# Altium integrated library Actel Fusion.IntLib: 336 symbols (part 8 of 73)
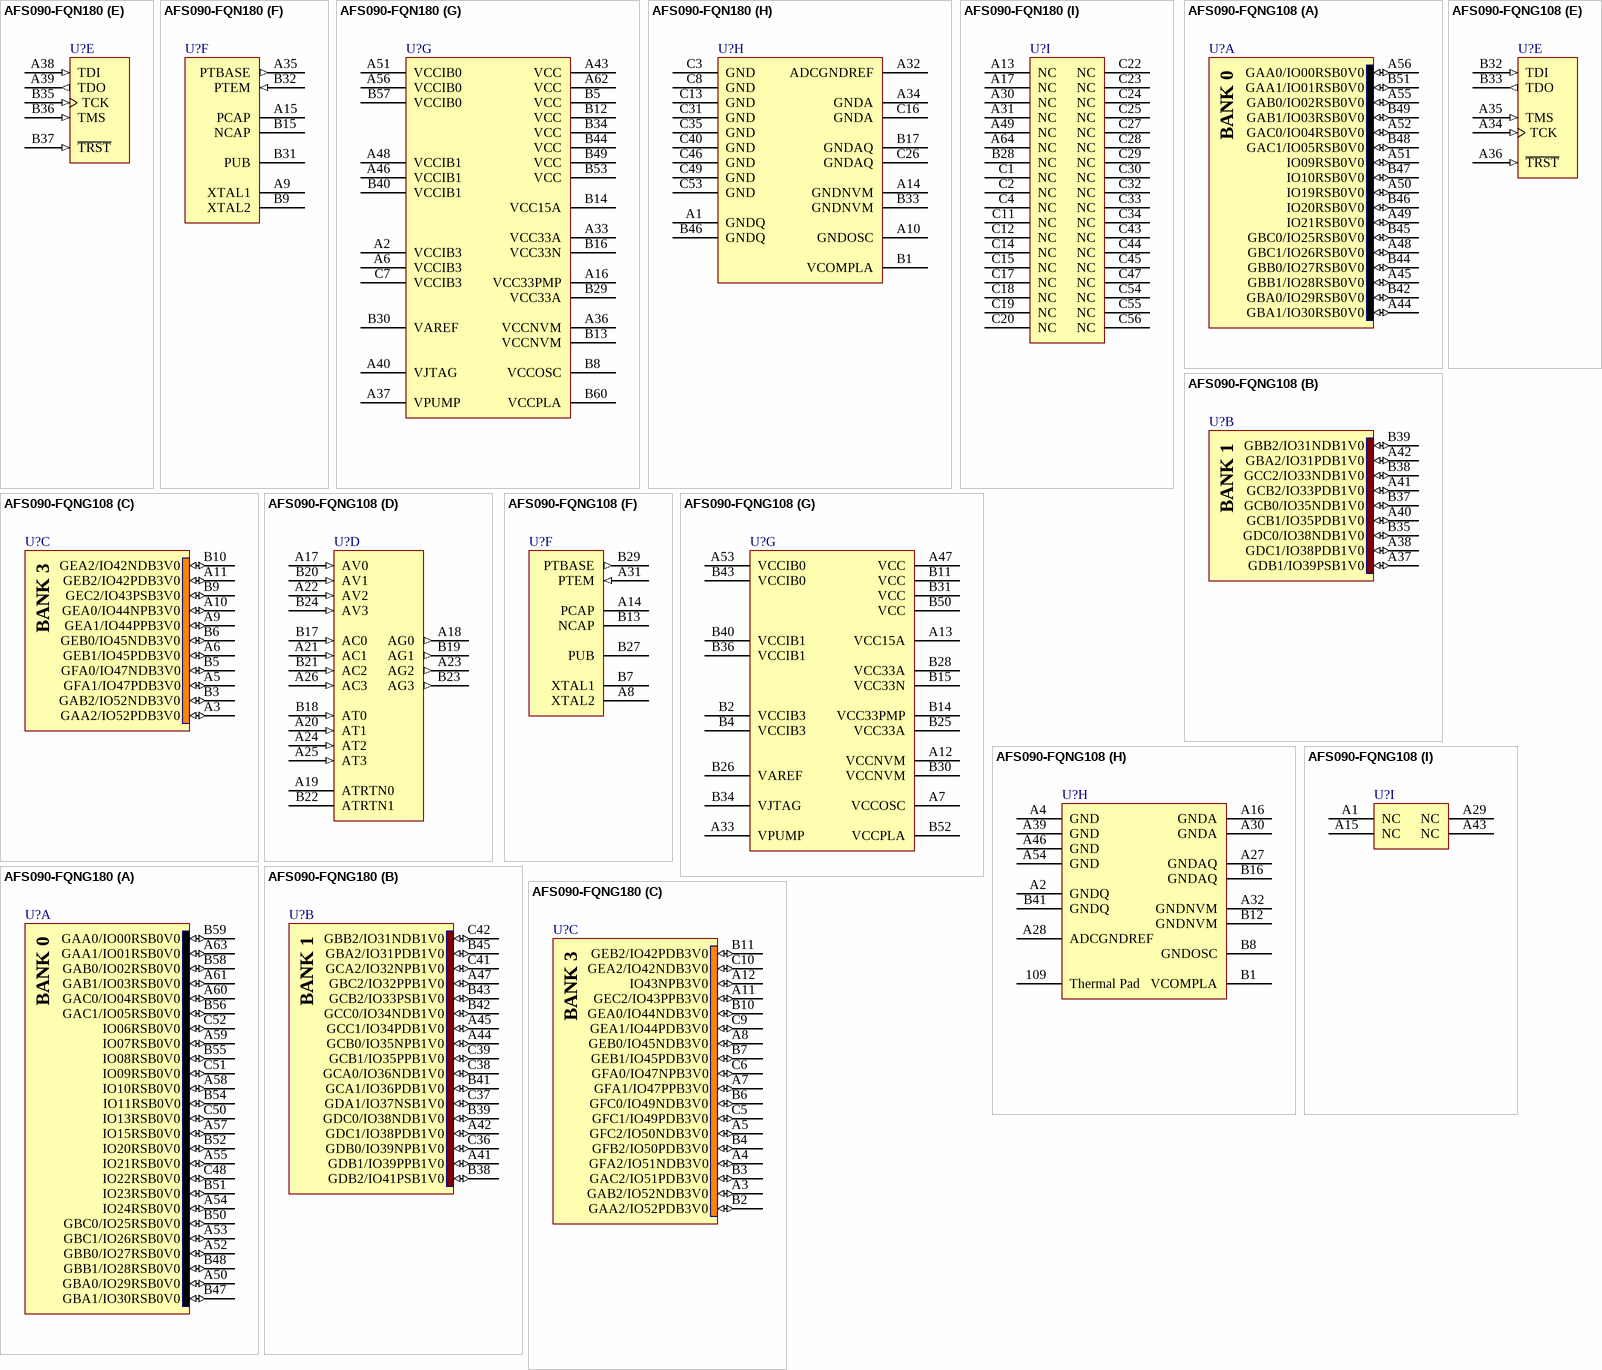
[diagram p396: symbols AFS090-FQN180 to AFS090-FQNG180]

## AFS090-FQNG108
designator U?
3.3V Fusion Mixed Signal Flash FPGA, 90,000 System Gates, 108-Pin Quad Flat No Lead, F Speed Grade, Commercial Grade, Pb-Free; ComponentAvailability: F speed grade removed in ver2.0, Jul-2009 datasheet.; Published: 30-Jun-2006; LatestRevisionDate: 30-Apr-2009; LatestRevisionNote: Added Thermal Pad to Sch.; DatasheetVersion: v1.7, Oct-2008; PackageVersion: ver11.2, Nov-2009; PackageReference: QN108; Publisher: Altium Limited; PackageDescription: 108-Pin Quad Flat Pack No-Leads (QN108); ComponentLink1Description: Fusion Datasheet; ComponentLink1URL: http://www.actel.com/documents/Fusion_DS.pdf; ComponentLink2Description: Package Mechanical Drawings; ComponentLink2URL: http://www.actel.com/documents/PckgMechDrwngs.pdf; ComponentLink3Description: Fusion Documents; ComponentLink3URL: http://www.actel.com/products/fusion/docs.aspx; ComponentLink4Description: Actel.com Home; ComponentLink4URL: http://www.actel.com/
footprint QN108 (QFN, 108-Leads, Body 8x8mm, Pitch 0.5mm)
3D model AFS090-QN108 (108-Pin Quad Flat Pack No-Leads (QN108))
signal-integrity model AFS090_QN108 (Fusion)
part A pins: A44 GBA1/IO30RSB0V0 (io), A45 GBB1/IO28RSB0V0 (io), A48 GBC1/IO26RSB0V0 (io), A49 IO21RSB0V0 (io), A50 IO19RSB0V0 (io), A51 IO09RSB0V0 (io), A52 GAC0/IO04RSB0V0 (io), A55 GAB0/IO02RSB0V0 (io), A56 GAA0/IO00RSB0V0 (io), B42 GBA0/IO29RSB0V0 (io), B44 GBB0/IO27RSB0V0 (io), B45 GBC0/IO25RSB0V0 (io), B46 IO20RSB0V0 (io), B47 IO10RSB0V0 (io), B48 GAC1/IO05RSB0V0 (io), B49 GAB1/IO03RSB0V0 (io), B51 GAA1/IO01RSB0V0 (io)
part B pins: A37 GDB1/IO39PSB1V0 (io), A38 GDC1/IO38PDB1V0 (io), A40 GCB1/IO35PDB1V0 (io), A41 GCB2/IO33PDB1V0 (io), A42 GBA2/IO31PDB1V0 (io), B35 GDC0/IO38NDB1V0 (io), B37 GCB0/IO35NDB1V0 (io), B38 GCC2/IO33NDB1V0 (io), B39 GBB2/IO31NDB1V0 (io)
part C pins: A3 GAA2/IO52PDB3V0 (io), A5 GFA1/IO47PDB3V0 (io), A6 GEB1/IO45PDB3V0 (io), A9 GEA1/IO44PPB3V0 (io), A10 GEA0/IO44NPB3V0 (io), A11 GEB2/IO42PDB3V0 (io), B3 GAB2/IO52NDB3V0 (io), B5 GFA0/IO47NDB3V0 (io), B6 GEB0/IO45NDB3V0 (io), B9 GEC2/IO43PSB3V0 (io), B10 GEA2/IO42NDB3V0 (io)
part D pins: A17 AV0 (in) "Analog voltage pad 0.", A18 AG0 (out) "Analog gate driver pad 0.", A19 ATRTN0 "Temperature monitor return 0.", A20 AT1 (in) "Analog temperature pad 1.", A21 AC1 (in) "Analog current pad 1.", A22 AV2 (in) "Analog voltage pad 2.", A23 AG2 (out) "Analog gate driver pad 2.", A24 AT2 (in) "Analog temperature pad 2.", A25 AT3 (in) "Analog temperature pad 3.", A26 AC3 (in) "Analog current pad 3.", B17 AC0 (in) "Analog current pad 0.", B18 AT0 (in) "Analog temperature pad 0.", B19 AG1 (out) "Analog gate driver pad 1.", B20 AV1 (in) "Analog voltage pad 1.", B21 AC2 (in) "Analog current pad 2.", B22 ATRTN1 "Temperature monitor return 1.", B23 AG3 (out) "Analog gate driver pad 3.", B24 AV3 (in) "Analog voltage pad 3."
part E pins: A34 TCK (in), A35 TMS (in), A36 ~{TRST} (in), B32 TDI (in), B33 TDO (out)
part F pins: A8 XTAL2 "Input to crystal oscillator - If using external RC network or clock input, XTAL1 should be used and XTAL2 left unconnected.", A14 PCAP "POSITIVE CAPACITOR - where the positive terminal of the charge pump capacitor is connected.", A31 PTEM (in) "PASS TRANSISTOR EMITTER - The feedback input of the voltage regulator.", B7 XTAL1 "Input to crystal oscillator - If using external RC network or clock input, XTAL1 should be used and XTAL2 left unconnected.", B13 NCAP "NEGATIVE CAPACITOR - where the negative terminal of the charge pump capacitor is connected.", B27 PUB "Power up bar - for the external momentary switch which turns on the 1.5V regulator.", B29 PTBASE (out) "PASS TRANSISTOR BASE - The control signal of the voltage regulator."
part G pins: A7 VCCOSC (power), A12 VCCNVM (power) "1.5V power supply used by the Fusion device's Flash memory block module(s).", A13 VCC15A (power), A33 VPUMP (power), A47 VCC (power), A53 VCCIB0 (power), B2 VCCIB3 (power) "Quiet supply voltage to the input buffers of bank 3.", B4 VCCIB3 (power), B11 VCC (power), B14 VCC33PMP (power) "3.3V clean analog power supply input for use by the analog charge pump.", B15 VCC33N (power) "-3.3V output from the voltage converter. A 2.2µF capacitor must be connected from this pin to ground.", B25 VCC33A (power) "Analog power pin for the analog power supply low pass filter. An external 1µF capacitor should be connected between this pin and ground.", B26 VAREF (power) "Analog reference voltage to be used by analog to digital converter.", B28 VCC33A (power), B30 VCCNVM (power) "1.5V power supply used by the Fusion device's Flash memory block module(s).", B31 VCC (power), B34 VJTAG (power), B36 VCCIB1 (power), B40 VCCIB1 (power) "Quiet supply voltage to the input buffers of bank 1.", B43 VCCIB0 (power), B50 VCC (power), B52 VCCPLA (power)
part H pins: 109 Thermal Pad (power) "Analog ground reference used by the ADC.", A2 GNDQ (power), A4 GND (power), A16 GNDA (power), A27 GNDAQ (power), A28 ADCGNDREF (power) "Analog ground reference used by the ADC.", A30 GNDA (power), A32 GNDNVM (power) "Flash memory ground.", A39 GND (power), A46 GND (power), A54 GND (power), B1 VCOMPLA (power), B8 GNDOSC (power) "Oscillator ground.", B12 GNDNVM (power) "Flash memory ground.", B16 GNDAQ (power), B41 GNDQ (power)
part I pins: A1 NC, A15 NC, A29 NC, A43 NC
part A text: BANK 0
part B text: BANK 1
part C text: BANK 3

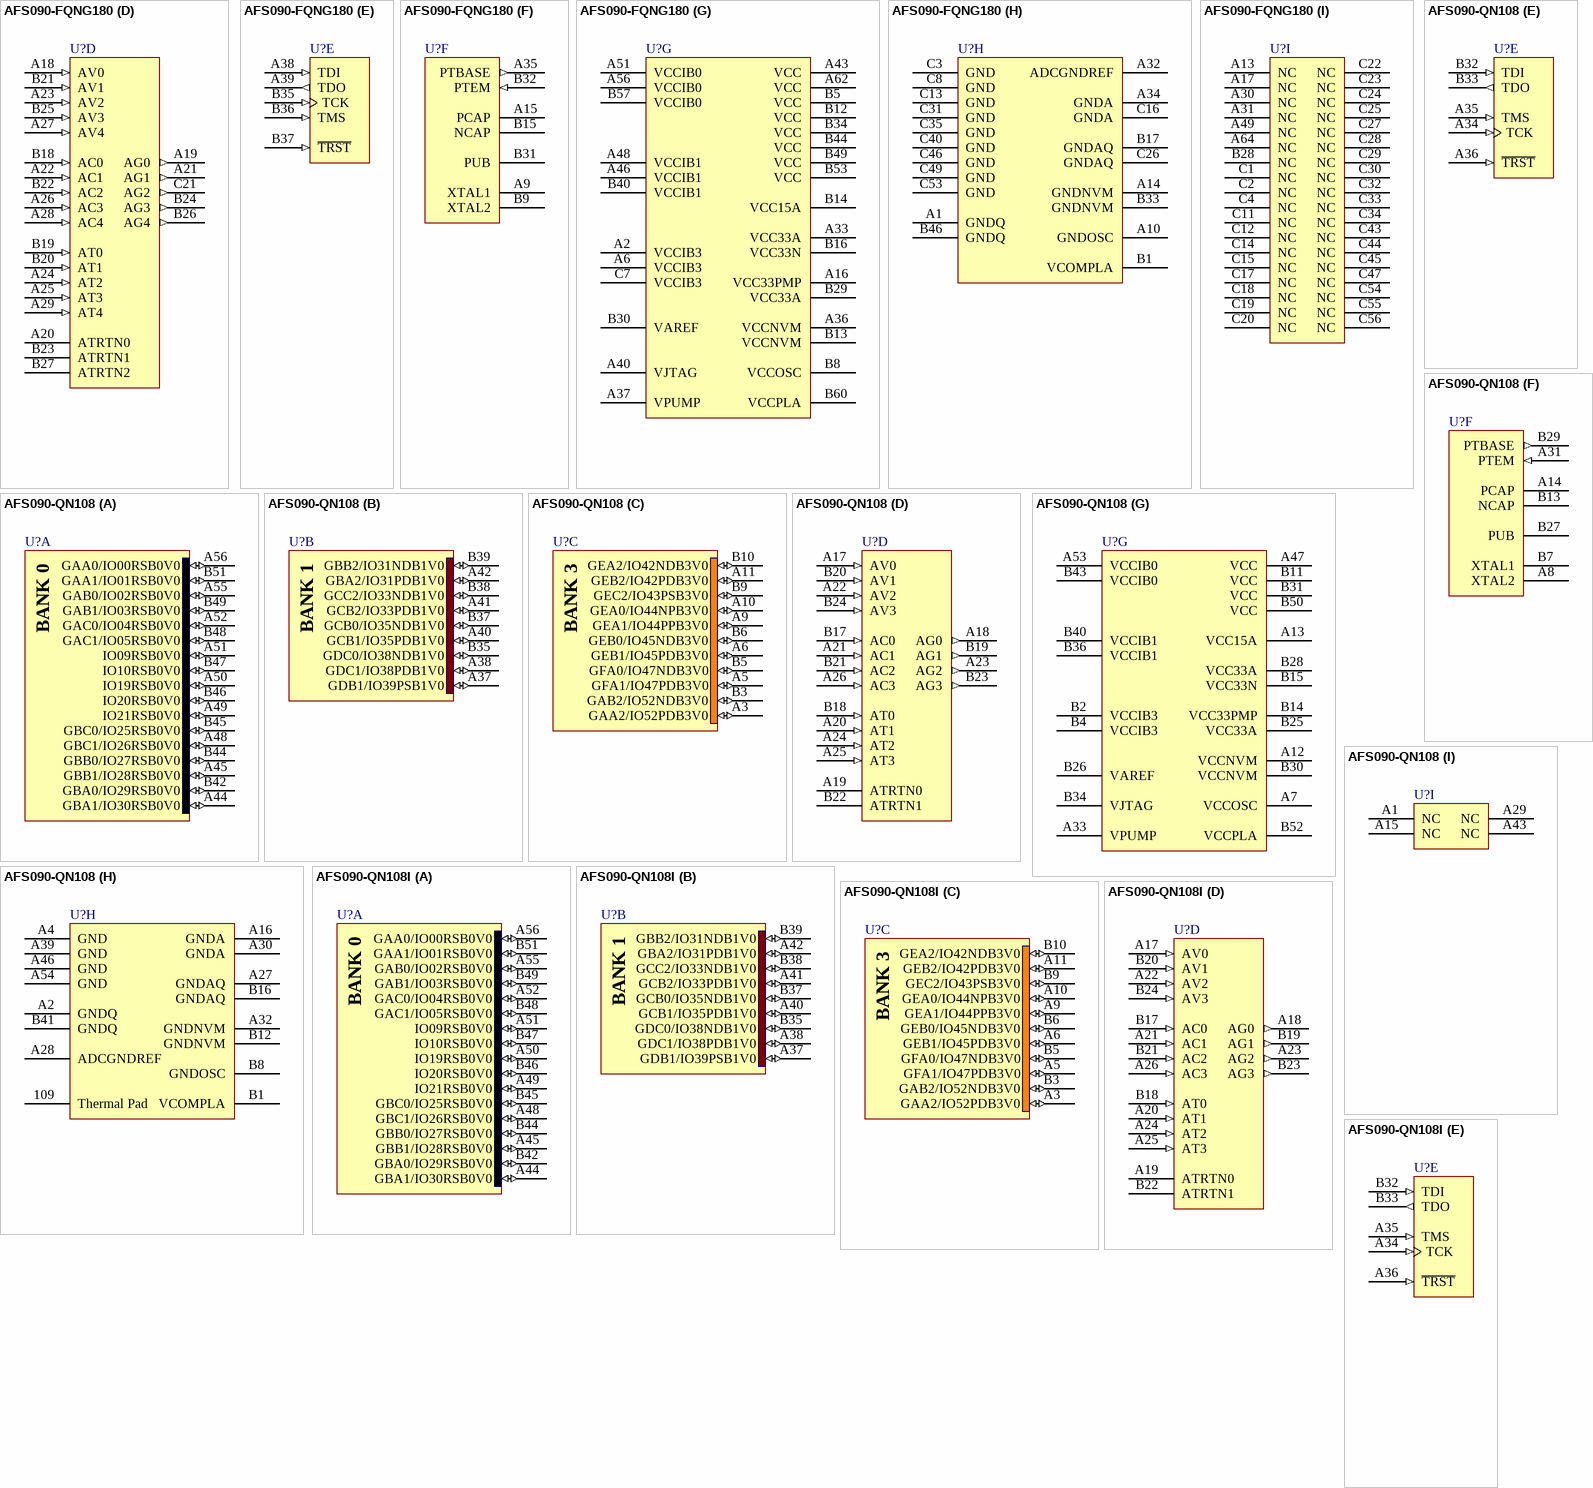
[diagram p19: symbols AFS090-FQNG180 to AFS090-QN108I]